# EAGLE library part PIC16F1825-X_ML (library PIC16F1825)
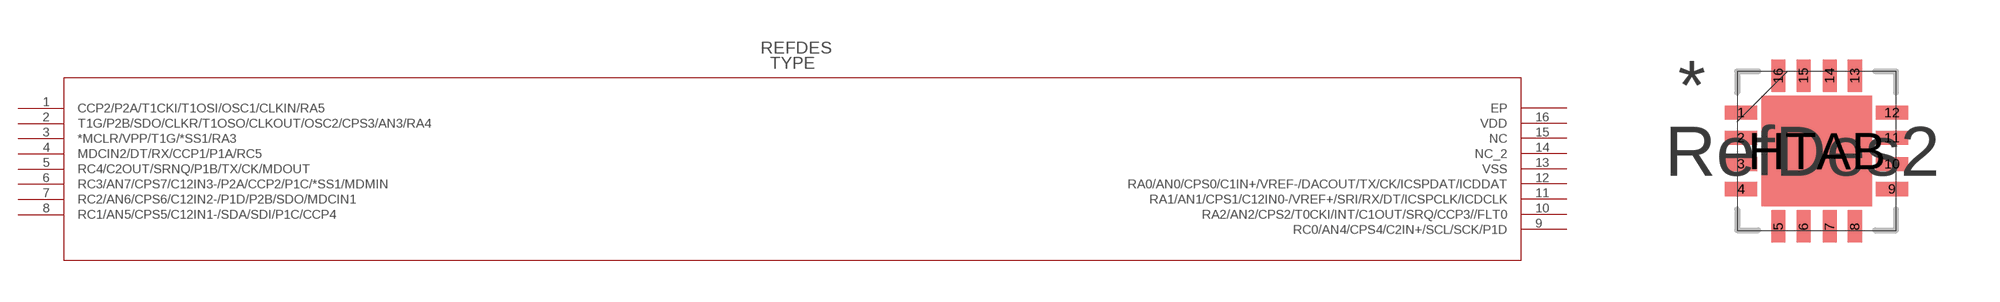
[diagram p3: symbol with the pads of QFN16_4X4MC; footprint QFN16_4X4MC]

Designator prefix U

## PIC16F1825-X_ML  [QFN16_4X4MC]
1  CCP2/P2A/T1CKI/T1OSI/OSC1/CLKIN/RA5  pas
2  T1G/P2B/SDO/CLKR/T1OSO/CLKOUT/OSC2/CPS3/AN3/RA4  pas
3  *MCLR/VPP/T1G/*SS1/RA3  pas
4  MDCIN2/DT/RX/CCP1/P1A/RC5  pas
5  RC4/C2OUT/SRNQ/P1B/TX/CK/MDOUT  pas
6  RC3/AN7/CPS7/C12IN3-/P2A/CCP2/P1C/*SS1/MDMIN  pas
7  RC2/AN6/CPS6/C12IN2-/P1D/P2B/SDO/MDCIN1  pas
8  RC1/AN5/CPS5/C12IN1-/SDA/SDI/P1C/CCP4  pas
9  RC0/AN4/CPS4/C2IN+/SCL/SCK/P1D  pas
10  RA2/AN2/CPS2/T0CKI/INT/C1OUT/SRQ/CCP3//FLT0  pas
11  RA1/AN1/CPS1/C12IN0-/VREF+/SRI/RX/DT/ICSPCLK/ICDCLK  pas
12  RA0/AN0/CPS0/C1IN+/VREF-/DACOUT/TX/CK/ICSPDAT/ICDDAT  pas
13  VSS  pas
14  NC_2  pas
15  NC  pas
16  VDD  pas

## Footprint QFN16_4X4MC (pad centres in mm)
smd 0.813 x 0.356: 1 -1.905,0.965; 2 -1.905,0.33; 3 -1.905,-0.33; 4 -1.905,-0.965; 9 1.905,-0.965; 10 1.905,-0.33; 11 1.905,0.33; 12 1.905,0.965
smd 0.356 x 0.813: 5 -0.965,-1.905; 6 -0.33,-1.905; 7 0.33,-1.905; 8 0.965,-1.905; 13 0.965,1.905; 14 0.33,1.905; 15 -0.33,1.905; 16 -0.965,1.905
smd 2.794 x 2.794: HTAB 0,0